# Altium footprint library Capacitors.PcbLib: 2 footprints
Each footprint in its own frame and in the unit in brackets; x right, y up, seen from the top. Pads: shape width x height; smd on the part's side, far side on the other; paste and mask are expansions set on the pad; w line width, h text height; cw(c..) or ccw(c..) is an arc to the next point about the centre after c.
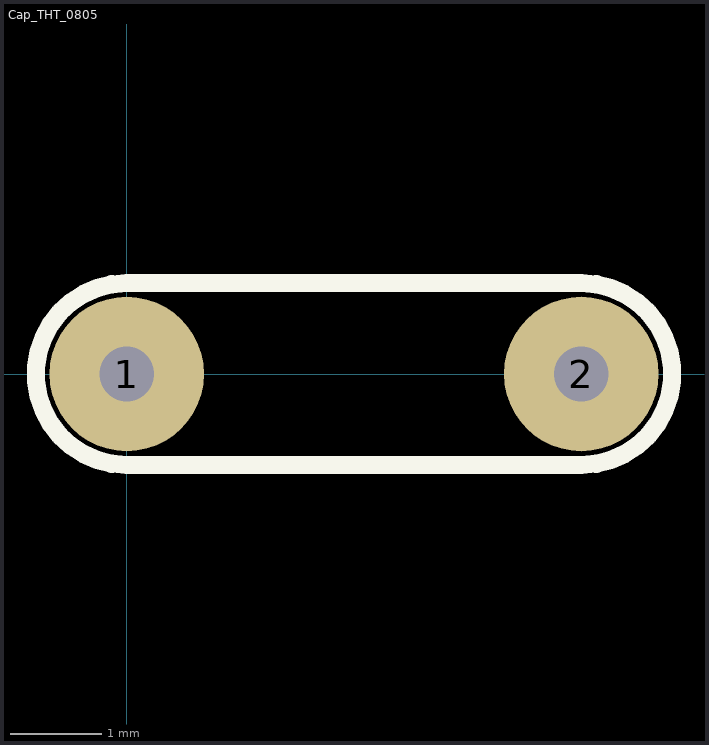
[diagram p0: the footprints below, top view; thin cyan lines are the x and y axes]

## Cap_THT_0805 [mm]
pads (2):
  round 1.7 hole 0.6: 1(0,0) 2(5,0)
Top Overlay:
  lines w0.2: 0,-1 cw(c0,0) 0,1 5,1 cw(c5,0) 5,-1 0,-1

## PCBComponent_1 [mm]